# Altium integrated library TI_Logic_Specialty_Logic.IntLib: 2504 symbols (part 9 of 81)
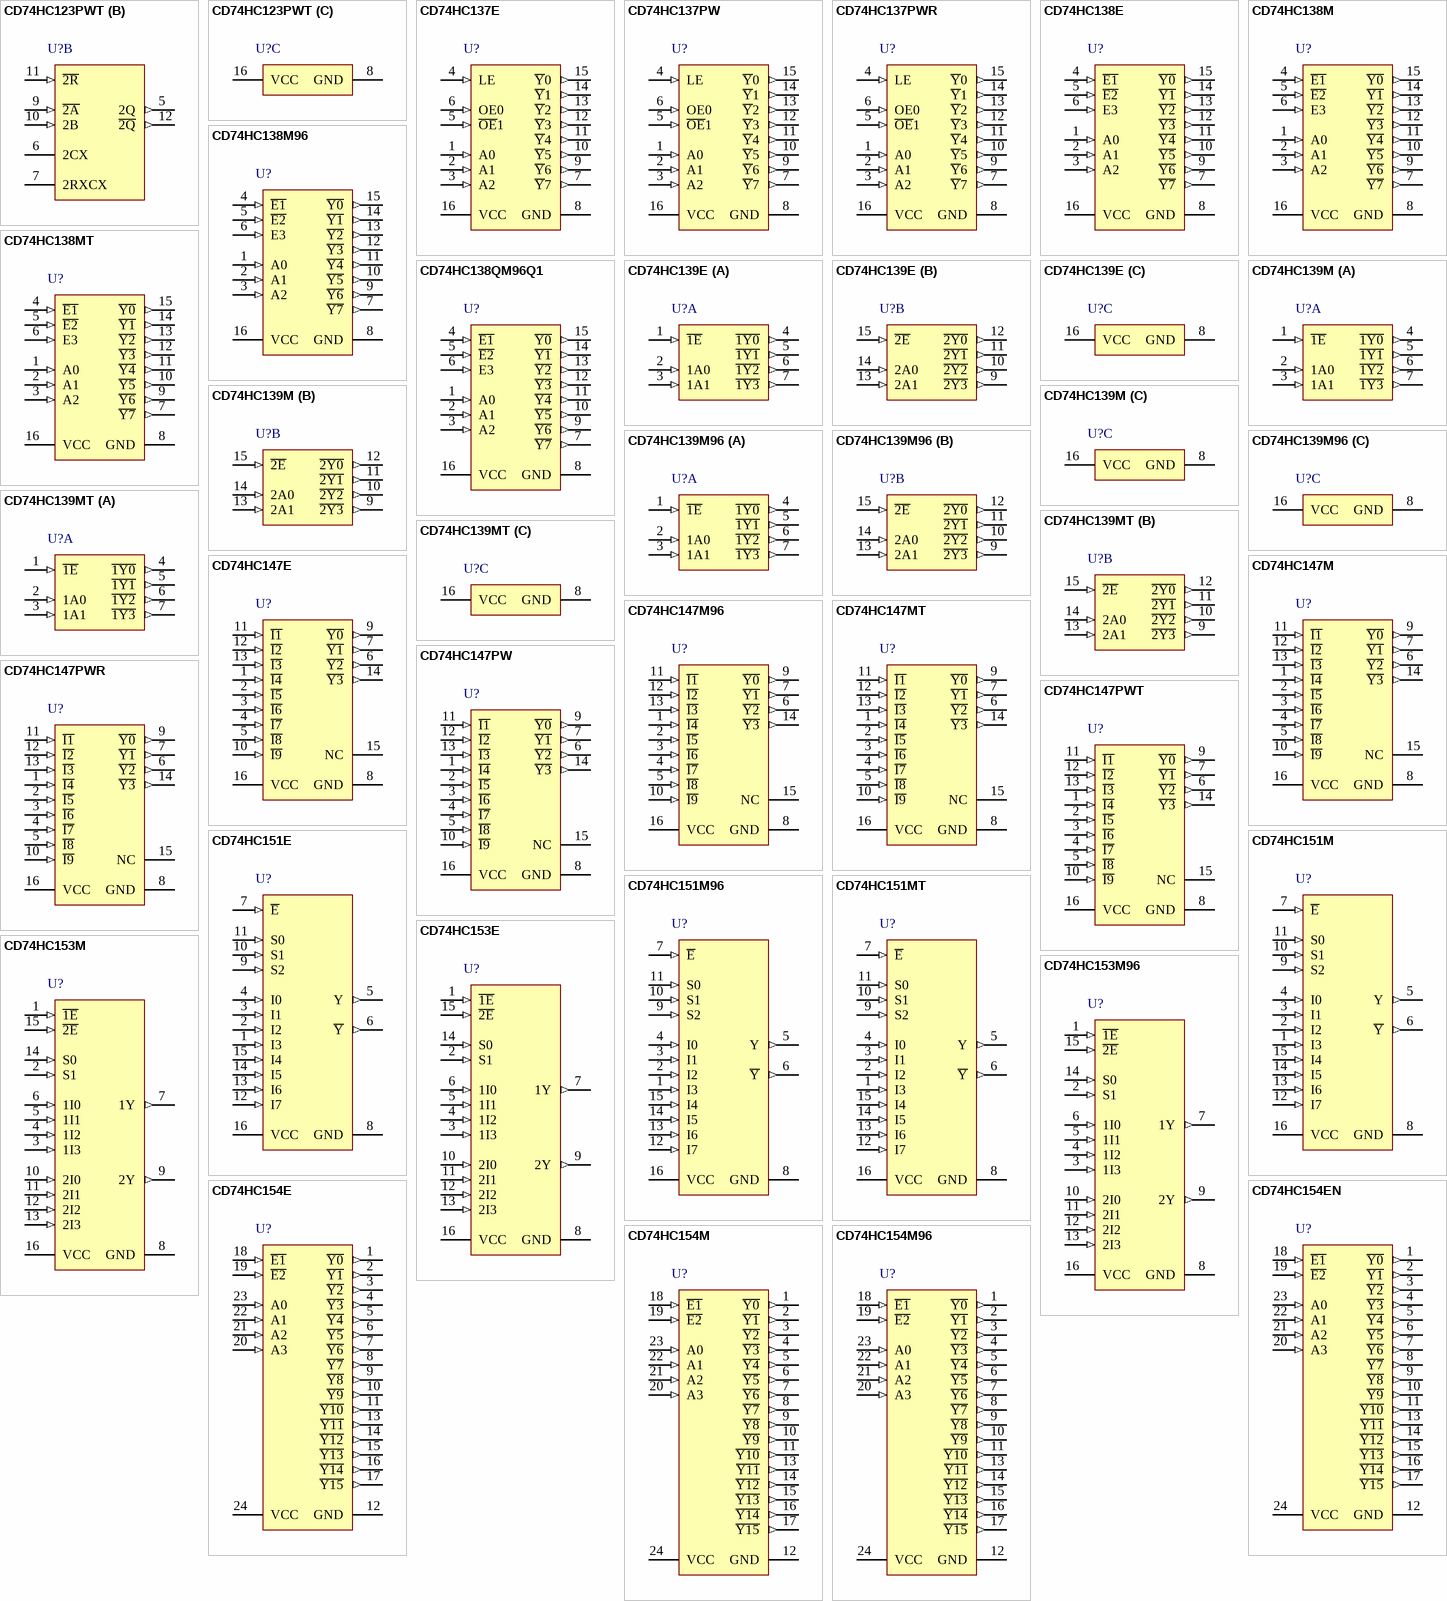
[diagram p112: symbols CD74HC123PWT to CD74HC154M96]

## CD74HC153M96
designator U?
High Speed CMOS Logic Dual 4-Input Multiplexers, D0016A, LARGE T&R; Generic Part Number: CD74HC153; Manufacturer: Texas Instruments; PartNumber: CD74HC153M96; VCC(Min)(V): 2; VCC(Max)(V): 6; Function: Encoder/Multiplexer; ICC @ Nom Voltage(Max)(mA): 0.08; Input Type: LVTTL/CMOS; Bits(#): 4; F @ Nom Voltage(Max)(Mhz): 28; Configuration: 4：1; Rating: Catalog; Technology Family: HC; Voltage(Nom)(V): 3.3,5; Schmitt Trigger: No; Output Drive (IOL/IOH)(Max)(mA): 5.2/-5.2; tpd @ Nom Voltage(Max)(ns): 40; DatasheetVersion: SCHS151C; PackageReference: D0016A; Supplier 1: Mouser; Supplier Part Number 1: 595-CD74HC153M96; Supplier 2: Digi-Key; Supplier Part Number 2: 296-31568-2-ND; Supplier 3: Digi-Key; Supplier Part Number 3: 296-31568-1-ND; Supplier 4: Digi-Key; Supplier Part Number 4: 296-31568-6-ND; Output Type: CMOS; Operating Temperature Range(C): -55 to 125; Type: Standard; Channels(#): 2; Code_JEDEC: MS-012 variation AC; ComponentLink1Description: Manufacturer URL; ComponentLink1URL: http://www.ti.com/; ComponentLink2Description: Datasheet; ComponentLink2URL: http://www.ti.com/lit/ds/symlink/cd74hc153.pdf; ComponentLink3Description: Package Specification; ComponentLink3URL: http://www.ti.com/lit/ml/mpds178g/mpds178g.pdf
footprint D0016A_N (SOIC, 16-Leads, Body 10x4mm, Pitch 1.27mm, IPC Medium Density)
footprint D0016A_M (SOIC, 16-Leads, Body 10x4mm, Pitch 1.27mm, IPC Low Density)
footprint D0016A_L (SOIC, 16-Leads, Body 10x4mm, Pitch 1.27mm, IPC High Density)
pins: 1 ~{1E} (in), 2 S1 (in), 3 1I3 (in), 4 1I2 (in), 5 1I1 (in), 6 1I0 (in), 7 1Y (out), 8 GND (power), 9 2Y (out), 10 2I0 (in), 11 2I1 (in), 12 2I2 (in), 13 2I3 (in), 14 S0 (in), 15 ~{2E} (in), 16 VCC (power)

## CD74HC154E
designator U?
High Speed CMOS Logic 4-to-16 Line Decoder/Demultiplexer, N0024A, TUBE; Generic Part Number: CD74HC154; Manufacturer: Texas Instruments; PartNumber: CD74HC154E; VCC(Min)(V): 2; VCC(Max)(V): 6; ICC @ Nom Voltage(Max)(mA): 0.08; Input Type: LVTTL/CMOS; Bits(#): 16; F @ Nom Voltage(Max)(Mhz): 28; Configuration: 4：16; Channels(#): 1; Rating: Catalog; Technology Family: HC; Voltage(Nom)(V): 3.3,5; Schmitt Trigger: No; Output Drive (IOL/IOH)(Max)(mA): 5.2/-5.2; tpd @ Nom Voltage(Max)(ns): 44; DatasheetVersion: SCHS152D; PackageReference: N0024A; Supplier 1: Mouser; Supplier Part Number 1: 595-CD74HC154E; Supplier 2: Digi-Key; Supplier Part Number 2: 296-9180-5-ND; Output Type: CMOS; Function: Decoder/Demultiplexer; Operating Temperature Range(C): -55 to 125; Type: Standard; Code_JEDEC: MS-011; ComponentLink1Description: Manufacturer URL; ComponentLink1URL: http://www.ti.com/; ComponentLink2Description: Datasheet; ComponentLink2URL: http://www.ti.com/lit/ds/symlink/cd74hc154.pdf; ComponentLink3Description: Package Specification; ComponentLink3URL: http://www.ti.com/lit/ml/mpdi008/mpdi008.pdf
footprint N0024A (DIP, 24-Leads, Body 32.25x14.2mm, Pitch 2.54mm)
pins: 1 ~{Y0} (out), 2 ~{Y1} (out), 3 ~{Y2} (out), 4 ~{Y3} (out), 5 ~{Y4} (out), 6 ~{Y5} (out), 7 ~{Y6} (out), 8 ~{Y7} (out), 9 ~{Y8} (out), 10 ~{Y9} (out), 11 ~{Y10} (out), 12 GND (power), 13 ~{Y11} (out), 14 ~{Y12} (out), 15 ~{Y13} (out), 16 ~{Y14} (out), 17 ~{Y15} (out), 18 ~{E1} (in), 19 ~{E2} (in), 20 A3 (in), 21 A2 (in), 22 A1 (in), 23 A0 (in), 24 VCC (power)

## CD74HC154EN
designator U?
High Speed CMOS Logic 4-to-16 Line Decoder/Demultiplexer, NT0024A, TUBE; Generic Part Number: CD74HC154; Manufacturer: Texas Instruments; PartNumber: CD74HC154EN; VCC(Min)(V): 2; VCC(Max)(V): 6; ICC @ Nom Voltage(Max)(mA): 0.08; Input Type: LVTTL/CMOS; Bits(#): 16; F @ Nom Voltage(Max)(Mhz): 28; Configuration: 4：16; Channels(#): 1; Rating: Catalog; Technology Family: HC; Voltage(Nom)(V): 3.3,5; Schmitt Trigger: No; Output Drive (IOL/IOH)(Max)(mA): 5.2/-5.2; tpd @ Nom Voltage(Max)(ns): 44; DatasheetVersion: SCHS152D; PackageReference: NT0024A; Supplier 1: Mouser; Supplier Part Number 1: 595-CD74HC154EN; Supplier 2: Digi-Key; Supplier Part Number 2: 296-9181-5-ND; Output Type: CMOS; Function: Decoder/Demultiplexer; Operating Temperature Range(C): -55 to 125; Type: Standard; ComponentLink1Description: Manufacturer URL; ComponentLink1URL: http://www.ti.com/; ComponentLink2Description: Datasheet; ComponentLink2URL: http://www.ti.com/lit/ds/symlink/cd74hc154.pdf; ComponentLink3Description: Package Specification; ComponentLink3URL: http://www.ti.com/lit/ml/mpdi004a/mpdi004a.pdf
footprint NT0024A (DIP, 24-Leads, Body 32.05x7.1mm, Pitch 2.54mm)
pins: 1 ~{Y0} (out), 2 ~{Y1} (out), 3 ~{Y2} (out), 4 ~{Y3} (out), 5 ~{Y4} (out), 6 ~{Y5} (out), 7 ~{Y6} (out), 8 ~{Y7} (out), 9 ~{Y8} (out), 10 ~{Y9} (out), 11 ~{Y10} (out), 12 GND (power), 13 ~{Y11} (out), 14 ~{Y12} (out), 15 ~{Y13} (out), 16 ~{Y14} (out), 17 ~{Y15} (out), 18 ~{E1} (in), 19 ~{E2} (in), 20 A3 (in), 21 A2 (in), 22 A1 (in), 23 A0 (in), 24 VCC (power)

## CD74HC154M
designator U?
High Speed CMOS Logic 4-to-16 Line Decoder/Demultiplexer, DW0024A, TUBE; Generic Part Number: CD74HC154; Manufacturer: Texas Instruments; PartNumber: CD74HC154M; VCC(Min)(V): 2; VCC(Max)(V): 6; ICC @ Nom Voltage(Max)(mA): 0.08; Input Type: LVTTL/CMOS; Bits(#): 16; F @ Nom Voltage(Max)(Mhz): 28; Configuration: 4：16; Channels(#): 1; Rating: Catalog; Technology Family: HC; Voltage(Nom)(V): 3.3,5; Schmitt Trigger: No; Output Drive (IOL/IOH)(Max)(mA): 5.2/-5.2; tpd @ Nom Voltage(Max)(ns): 44; DatasheetVersion: SCHS152D; PackageReference: DW0024A; Supplier 1: Mouser; Supplier Part Number 1: 595-CD74HC154M; Supplier 2: Digi-Key; Supplier Part Number 2: 296-9182-5-ND; Output Type: CMOS; Function: Decoder/Demultiplexer; Operating Temperature Range(C): -55 to 125; Type: Standard; Code_JEDEC: MS-013; ComponentLink1Description: Manufacturer URL; ComponentLink1URL: http://www.ti.com/; ComponentLink2Description: Datasheet; ComponentLink2URL: http://www.ti.com/lit/ds/symlink/cd74hc154.pdf; ComponentLink3Description: Package Specification; ComponentLink3URL: http://www.ti.com/lit/ml/mpds174a/mpds174a.pdf
footprint DW0024A_N (SOIC, 24-Leads, Body 15.6x7.6mm, Pitch 1.27mm, IPC Medium Density)
footprint DW0024A_M (SOIC, 24-Leads, Body 15.6x7.6mm, Pitch 1.27mm, IPC Low Density)
footprint DW0024A_L (SOIC, 24-Leads, Body 15.6x7.6mm, Pitch 1.27mm, IPC High Density)
pins: 1 ~{Y0} (out), 2 ~{Y1} (out), 3 ~{Y2} (out), 4 ~{Y3} (out), 5 ~{Y4} (out), 6 ~{Y5} (out), 7 ~{Y6} (out), 8 ~{Y7} (out), 9 ~{Y8} (out), 10 ~{Y9} (out), 11 ~{Y10} (out), 12 GND (power), 13 ~{Y11} (out), 14 ~{Y12} (out), 15 ~{Y13} (out), 16 ~{Y14} (out), 17 ~{Y15} (out), 18 ~{E1} (in), 19 ~{E2} (in), 20 A3 (in), 21 A2 (in), 22 A1 (in), 23 A0 (in), 24 VCC (power)

## CD74HC154M96
designator U?
High Speed CMOS Logic 4-to-16 Line Decoder/Demultiplexer, DW0024A, LARGE T&R; Generic Part Number: CD74HC154; Manufacturer: Texas Instruments; PartNumber: CD74HC154M96; VCC(Min)(V): 2; VCC(Max)(V): 6; ICC @ Nom Voltage(Max)(mA): 0.08; Input Type: LVTTL/CMOS; Bits(#): 16; F @ Nom Voltage(Max)(Mhz): 28; Configuration: 4：16; Channels(#): 1; Rating: Catalog; Technology Family: HC; Voltage(Nom)(V): 3.3,5; Schmitt Trigger: No; Output Drive (IOL/IOH)(Max)(mA): 5.2/-5.2; tpd @ Nom Voltage(Max)(ns): 44; DatasheetVersion: SCHS152D; PackageReference: DW0024A; Supplier 1: Mouser; Supplier Part Number 1: 595-CD74HC154M96; Supplier 2: Digi-Key; Supplier Part Number 2: 296-24352-2-ND; Supplier 3: Digi-Key; Supplier Part Number 3: 296-24352-1-ND; Supplier 4: Digi-Key; Supplier Part Number 4: 296-24352-6-ND; Output Type: CMOS; Function: Decoder/Demultiplexer; Operating Temperature Range(C): -55 to 125; Type: Standard; Code_JEDEC: MS-013; ComponentLink1Description: Manufacturer URL; ComponentLink1URL: http://www.ti.com/; ComponentLink2Description: Datasheet; ComponentLink2URL: http://www.ti.com/lit/ds/symlink/cd74hc154.pdf; ComponentLink3Description: Package Specification; ComponentLink3URL: http://www.ti.com/lit/ml/mpds174a/mpds174a.pdf
footprint DW0024A_N (SOIC, 24-Leads, Body 15.6x7.6mm, Pitch 1.27mm, IPC Medium Density)
footprint DW0024A_M (SOIC, 24-Leads, Body 15.6x7.6mm, Pitch 1.27mm, IPC Low Density)
footprint DW0024A_L (SOIC, 24-Leads, Body 15.6x7.6mm, Pitch 1.27mm, IPC High Density)
pins: 1 ~{Y0} (out), 2 ~{Y1} (out), 3 ~{Y2} (out), 4 ~{Y3} (out), 5 ~{Y4} (out), 6 ~{Y5} (out), 7 ~{Y6} (out), 8 ~{Y7} (out), 9 ~{Y8} (out), 10 ~{Y9} (out), 11 ~{Y10} (out), 12 GND (power), 13 ~{Y11} (out), 14 ~{Y12} (out), 15 ~{Y13} (out), 16 ~{Y14} (out), 17 ~{Y15} (out), 18 ~{E1} (in), 19 ~{E2} (in), 20 A3 (in), 21 A2 (in), 22 A1 (in), 23 A0 (in), 24 VCC (power)

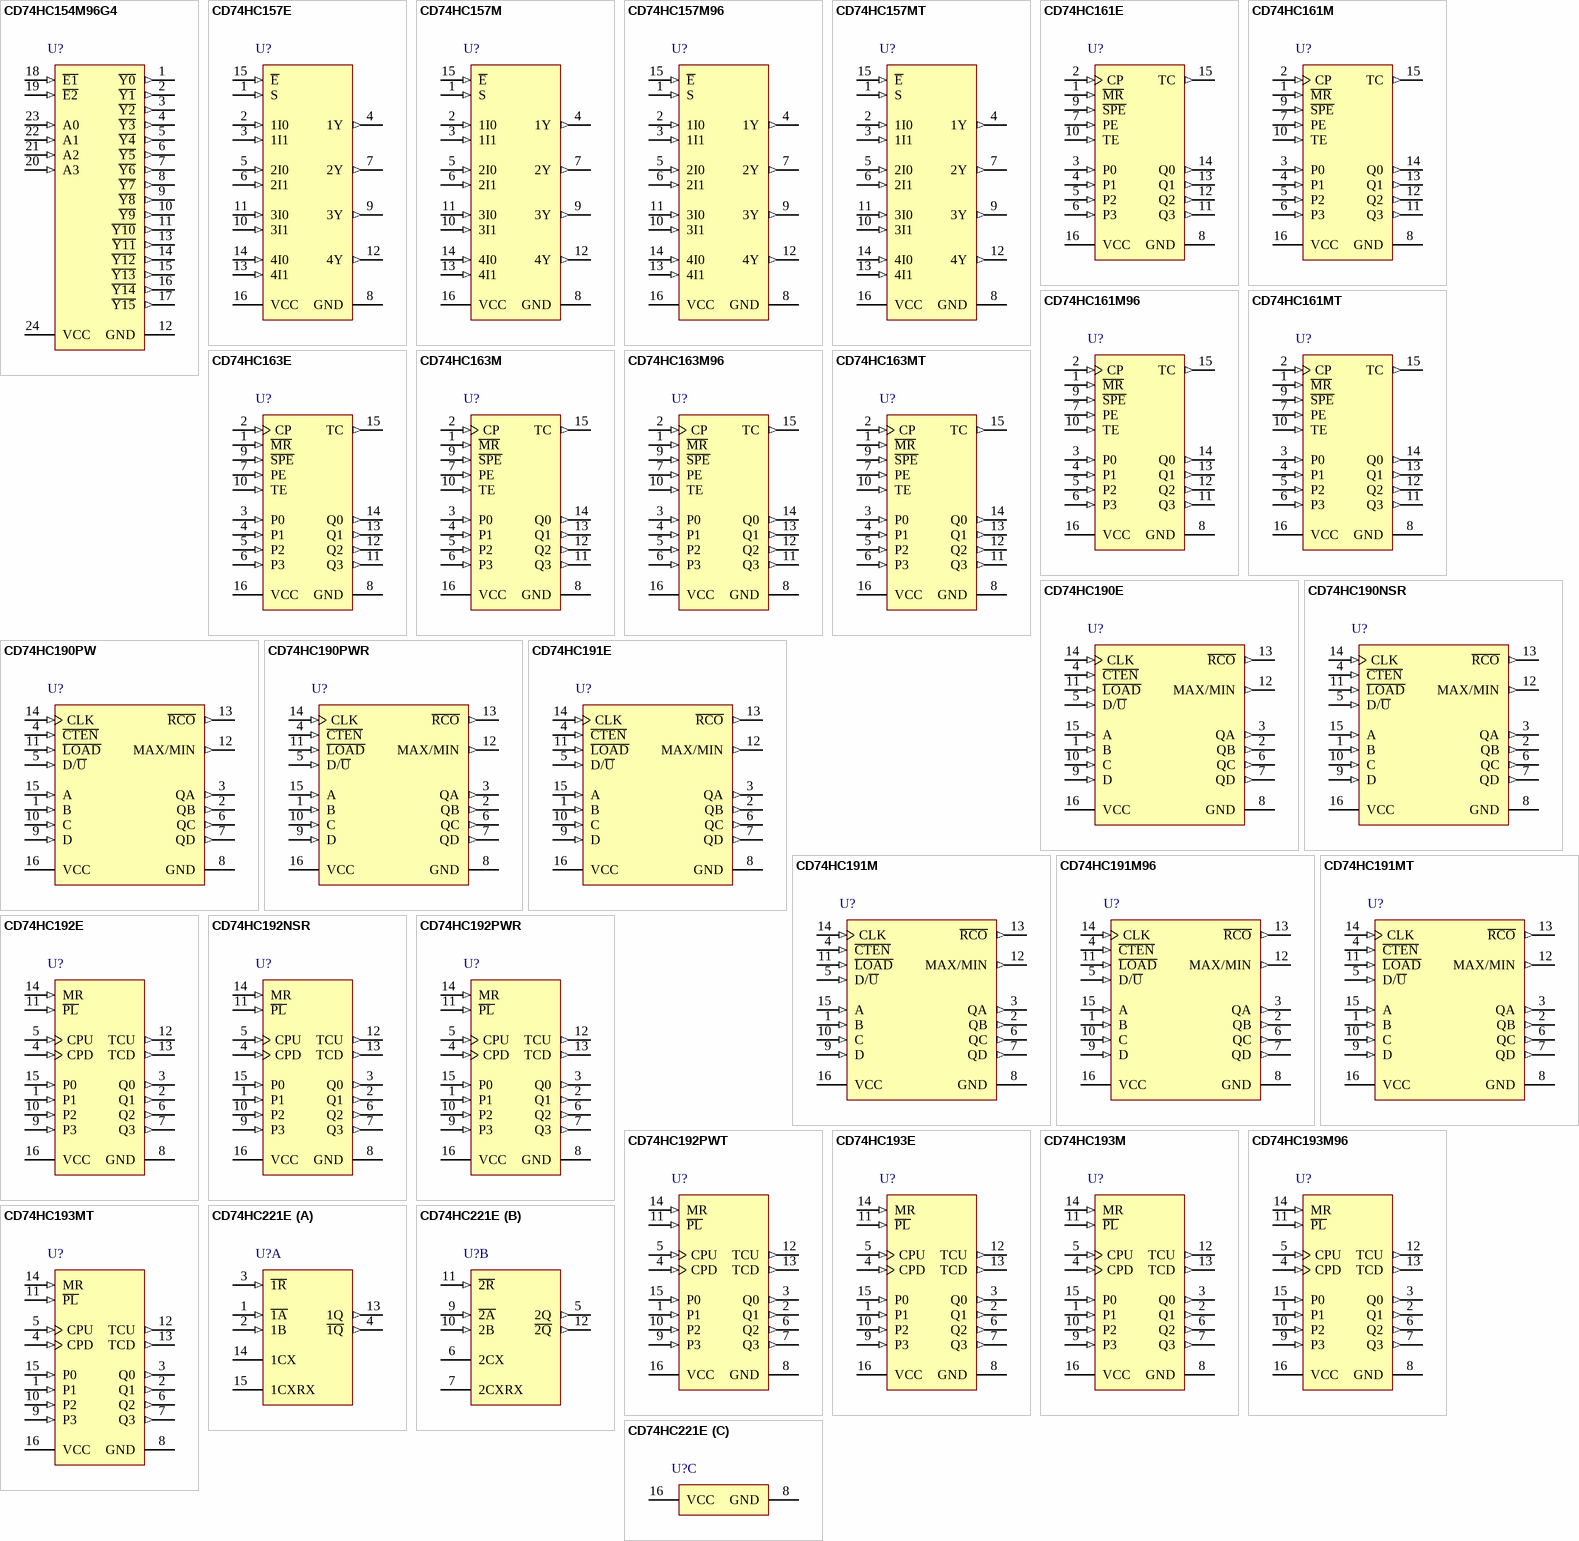
[diagram p11: symbols CD74HC154M96G4 to CD74HC221E]

## CD74HC154M96G4
designator U?
High Speed CMOS Logic 4-to-16 Line Decoder/Demultiplexer, DW0024A, LARGE T&R; Generic Part Number: CD74HC154; Manufacturer: Texas Instruments; PartNumber: CD74HC154M96G4; VCC(Min)(V): 2; VCC(Max)(V): 6; ICC @ Nom Voltage(Max)(mA): 0.08; Input Type: LVTTL/CMOS; Bits(#): 16; F @ Nom Voltage(Max)(Mhz): 28; Configuration: 4：16; Channels(#): 1; Rating: Catalog; Technology Family: HC; Voltage(Nom)(V): 3.3,5; Schmitt Trigger: No; Output Drive (IOL/IOH)(Max)(mA): 5.2/-5.2; tpd @ Nom Voltage(Max)(ns): 44; DatasheetVersion: SCHS152D; PackageReference: DW0024A; Supplier 1: Mouser; Supplier Part Number 1: 595-CD74HC154M96G4; Supplier 2: Digi-Key; Supplier Part Number 2: CD74HC154M96G4-ND; Output Type: CMOS; Function: Decoder/Demultiplexer; Operating Temperature Range(C): -55 to 125; Type: Standard; Code_JEDEC: MS-013; ComponentLink1Description: Manufacturer URL; ComponentLink1URL: http://www.ti.com/; ComponentLink2Description: Datasheet; ComponentLink2URL: http://www.ti.com/lit/ds/symlink/cd74hc154.pdf; ComponentLink3Description: Package Specification; ComponentLink3URL: http://www.ti.com/lit/ml/mpds174a/mpds174a.pdf
footprint DW0024A_N (SOIC, 24-Leads, Body 15.6x7.6mm, Pitch 1.27mm, IPC Medium Density)
footprint DW0024A_M (SOIC, 24-Leads, Body 15.6x7.6mm, Pitch 1.27mm, IPC Low Density)
footprint DW0024A_L (SOIC, 24-Leads, Body 15.6x7.6mm, Pitch 1.27mm, IPC High Density)
pins: 1 ~{Y0} (out), 2 ~{Y1} (out), 3 ~{Y2} (out), 4 ~{Y3} (out), 5 ~{Y4} (out), 6 ~{Y5} (out), 7 ~{Y6} (out), 8 ~{Y7} (out), 9 ~{Y8} (out), 10 ~{Y9} (out), 11 ~{Y10} (out), 12 GND (power), 13 ~{Y11} (out), 14 ~{Y12} (out), 15 ~{Y13} (out), 16 ~{Y14} (out), 17 ~{Y15} (out), 18 ~{E1} (in), 19 ~{E2} (in), 20 A3 (in), 21 A2 (in), 22 A1 (in), 23 A0 (in), 24 VCC (power)

## CD74HC157E
designator U?
High Speed CMOS Logic Quad 2-Input Multiplexers, N0016A, TUBE; Generic Part Number: CD74HC157; Manufacturer: Texas Instruments; PartNumber: CD74HC157E; VCC(Min)(V): 2; VCC(Max)(V): 6; Function: Encoder/Multiplexer; ICC @ Nom Voltage(Max)(mA): 0.08; Input Type: LVTTL/CMOS; F @ Nom Voltage(Max)(Mhz): 28; Configuration: 2：1; Channels(#): 4; Rating: Catalog; Technology Family: HC; Voltage(Nom)(V): 3.3,5; Schmitt Trigger: No; Output Drive (IOL/IOH)(Max)(mA): 5.2/-5.2; tpd @ Nom Voltage(Max)(ns): 10; DatasheetVersion: SCHS153C; PackageReference: N0016A; Supplier 1: Mouser; Supplier Part Number 1: 595-CD74HC157E; Supplier 2: Digi-Key; Supplier Part Number 2: 296-33030-5-ND; Output Type: CMOS; Bits(#): 2; Operating Temperature Range(C): -55 to 125; Type: Standard; Code_JEDEC: MS-001; ComponentLink1Description: Manufacturer URL; ComponentLink1URL: http://www.ti.com/; ComponentLink2Description: Datasheet; ComponentLink2URL: http://www.ti.com/lit/ds/symlink/cd74hc157.pdf; ComponentLink3Description: Package Specification; ComponentLink3URL: http://www.ti.com/lit/ml/mpdi002c/mpdi002c.pdf
footprint N0016A (DIP, 16-Leads, Body 19.7x6.6mm, Pitch 2.54mm)
pins: 1 S (in), 2 1I0 (in), 3 1I1 (in), 4 1Y (out), 5 2I0 (in), 6 2I1 (in), 7 2Y (out), 8 GND (power), 9 3Y (out), 10 3I1 (in), 11 3I0 (in), 12 4Y (out), 13 4I1 (in), 14 4I0 (in), 15 ~{E} (in), 16 VCC (power)

## CD74HC157M
designator U?
High Speed CMOS Logic Quad 2-Input Multiplexers, D0016A, TUBE; Generic Part Number: CD74HC157; Manufacturer: Texas Instruments; PartNumber: CD74HC157M; VCC(Min)(V): 2; VCC(Max)(V): 6; Function: Encoder/Multiplexer; ICC @ Nom Voltage(Max)(mA): 0.08; Input Type: LVTTL/CMOS; F @ Nom Voltage(Max)(Mhz): 28; Configuration: 2：1; Channels(#): 4; Rating: Catalog; Technology Family: HC; Voltage(Nom)(V): 3.3,5; Schmitt Trigger: No; Output Drive (IOL/IOH)(Max)(mA): 5.2/-5.2; tpd @ Nom Voltage(Max)(ns): 10; DatasheetVersion: SCHS153C; PackageReference: D0016A; Supplier 1: Mouser; Supplier Part Number 1: 595-CD74HC157M; Supplier 2: Digi-Key; Supplier Part Number 2: 296-33031-5-ND; Output Type: CMOS; Bits(#): 2; Operating Temperature Range(C): -55 to 125; Type: Standard; Code_JEDEC: MS-012 variation AC; ComponentLink1Description: Manufacturer URL; ComponentLink1URL: http://www.ti.com/; ComponentLink2Description: Datasheet; ComponentLink2URL: http://www.ti.com/lit/ds/symlink/cd74hc157.pdf; ComponentLink3Description: Package Specification; ComponentLink3URL: http://www.ti.com/lit/ml/mpds178g/mpds178g.pdf
footprint D0016A_N (SOIC, 16-Leads, Body 10x4mm, Pitch 1.27mm, IPC Medium Density)
footprint D0016A_M (SOIC, 16-Leads, Body 10x4mm, Pitch 1.27mm, IPC Low Density)
footprint D0016A_L (SOIC, 16-Leads, Body 10x4mm, Pitch 1.27mm, IPC High Density)
pins: 1 S (in), 2 1I0 (in), 3 1I1 (in), 4 1Y (out), 5 2I0 (in), 6 2I1 (in), 7 2Y (out), 8 GND (power), 9 3Y (out), 10 3I1 (in), 11 3I0 (in), 12 4Y (out), 13 4I1 (in), 14 4I0 (in), 15 ~{E} (in), 16 VCC (power)

## CD74HC157M96
designator U?
High Speed CMOS Logic Quad 2-Input Multiplexers, D0016A, LARGE T&R; Generic Part Number: CD74HC157; Manufacturer: Texas Instruments; PartNumber: CD74HC157M96; VCC(Min)(V): 2; VCC(Max)(V): 6; Function: Encoder/Multiplexer; ICC @ Nom Voltage(Max)(mA): 0.08; Input Type: LVTTL/CMOS; F @ Nom Voltage(Max)(Mhz): 28; Configuration: 2：1; Channels(#): 4; Rating: Catalog; Technology Family: HC; Voltage(Nom)(V): 3.3,5; Schmitt Trigger: No; Output Drive (IOL/IOH)(Max)(mA): 5.2/-5.2; tpd @ Nom Voltage(Max)(ns): 10; DatasheetVersion: SCHS153C; PackageReference: D0016A; Supplier 1: Mouser; Supplier Part Number 1: 595-CD74HC157M96; Supplier 2: Digi-Key; Supplier Part Number 2: 296-31569-2-ND; Supplier 3: Digi-Key; Supplier Part Number 3: 296-31569-1-ND; Supplier 4: Digi-Key; Supplier Part Number 4: 296-31569-6-ND; Output Type: CMOS; Bits(#): 2; Operating Temperature Range(C): -55 to 125; Type: Standard; Code_JEDEC: MS-012 variation AC; ComponentLink1Description: Manufacturer URL; ComponentLink1URL: http://www.ti.com/; ComponentLink2Description: Datasheet; ComponentLink2URL: http://www.ti.com/lit/ds/symlink/cd74hc157.pdf; ComponentLink3Description: Package Specification; ComponentLink3URL: http://www.ti.com/lit/ml/mpds178g/mpds178g.pdf
footprint D0016A_N (SOIC, 16-Leads, Body 10x4mm, Pitch 1.27mm, IPC Medium Density)
footprint D0016A_M (SOIC, 16-Leads, Body 10x4mm, Pitch 1.27mm, IPC Low Density)
footprint D0016A_L (SOIC, 16-Leads, Body 10x4mm, Pitch 1.27mm, IPC High Density)
pins: 1 S (in), 2 1I0 (in), 3 1I1 (in), 4 1Y (out), 5 2I0 (in), 6 2I1 (in), 7 2Y (out), 8 GND (power), 9 3Y (out), 10 3I1 (in), 11 3I0 (in), 12 4Y (out), 13 4I1 (in), 14 4I0 (in), 15 ~{E} (in), 16 VCC (power)

## CD74HC157MT
designator U?
High Speed CMOS Logic Quad 2-Input Multiplexers, D0016A, SMALL T&R; Generic Part Number: CD74HC157; Manufacturer: Texas Instruments; PartNumber: CD74HC157MT; VCC(Min)(V): 2; VCC(Max)(V): 6; Function: Encoder/Multiplexer; ICC @ Nom Voltage(Max)(mA): 0.08; Input Type: LVTTL/CMOS; F @ Nom Voltage(Max)(Mhz): 28; Configuration: 2：1; Channels(#): 4; Rating: Catalog; Technology Family: HC; Voltage(Nom)(V): 3.3,5; Schmitt Trigger: No; Output Drive (IOL/IOH)(Max)(mA): 5.2/-5.2; tpd @ Nom Voltage(Max)(ns): 10; DatasheetVersion: SCHS153C; PackageReference: D0016A; Supplier 1: Mouser; Supplier Part Number 1: 595-CD74HC157MT; Supplier 2: Digi-Key; Supplier Part Number 2: CD74HC157MT-ND; Output Type: CMOS; Bits(#): 2; Operating Temperature Range(C): -55 to 125; Type: Standard; Code_JEDEC: MS-012 variation AC; ComponentLink1Description: Manufacturer URL; ComponentLink1URL: http://www.ti.com/; ComponentLink2Description: Datasheet; ComponentLink2URL: http://www.ti.com/lit/ds/symlink/cd74hc157.pdf; ComponentLink3Description: Package Specification; ComponentLink3URL: http://www.ti.com/lit/ml/mpds178g/mpds178g.pdf
footprint D0016A_N (SOIC, 16-Leads, Body 10x4mm, Pitch 1.27mm, IPC Medium Density)
footprint D0016A_M (SOIC, 16-Leads, Body 10x4mm, Pitch 1.27mm, IPC Low Density)
footprint D0016A_L (SOIC, 16-Leads, Body 10x4mm, Pitch 1.27mm, IPC High Density)
pins: 1 S (in), 2 1I0 (in), 3 1I1 (in), 4 1Y (out), 5 2I0 (in), 6 2I1 (in), 7 2Y (out), 8 GND (power), 9 3Y (out), 10 3I1 (in), 11 3I0 (in), 12 4Y (out), 13 4I1 (in), 14 4I0 (in), 15 ~{E} (in), 16 VCC (power)

## CD74HC161E
designator U?
High Speed CMOS Logic 4-Bit Binary Counter with Asynchronous Reset, N0016A, TUBE; Generic Part Number: CD74HC161; Manufacturer: Texas Instruments; PartNumber: CD74HC161E; VCC(Min)(V): 2; VCC(Max)(V): 6; Inputs: 4; ICC @ Nom Voltage(Max)(mA): 0.08; Input Type: LVTTL/CMOS; F @ Nom Voltage(Max)(Mhz): 28; Rating: Catalog; Technology Family: HC; Voltage(Nom)(V): 3.3,5; Schmitt Trigger: No; Output Drive (IOL/IOH)(Max)(mA): 5.2/-5.2; tpd @ Nom Voltage(Max)(ns): 39; DatasheetVersion: SCHS154D; PackageReference: N0016A; Supplier 1: Mouser; Supplier Part Number 1: 595-CD74HC161E; Supplier 2: Digi-Key; Supplier Part Number 2: 296-33032-5-ND; Output Type: CMOS; Function: Counter; Bits(#): 4; Operating Temperature Range(C): -55 to 125; Type: Binary; Code_JEDEC: MS-001; ComponentLink1Description: Manufacturer URL; ComponentLink1URL: http://www.ti.com/; ComponentLink2Description: Datasheet; ComponentLink2URL: http://www.ti.com/lit/ds/symlink/cd74hc161.pdf; ComponentLink3Description: Package Specification; ComponentLink3URL: http://www.ti.com/lit/ml/mpdi002c/mpdi002c.pdf
footprint N0016A (DIP, 16-Leads, Body 19.7x6.6mm, Pitch 2.54mm)
pins: 1 ~{MR} (in), 2 CP (in), 3 P0 (in), 4 P1 (in), 5 P2 (in), 6 P3 (in), 7 PE (in), 8 GND (power), 9 ~{SPE} (in), 10 TE (in), 11 Q3 (out), 12 Q2 (out), 13 Q1 (out), 14 Q0 (out), 15 TC (out), 16 VCC (power)

## CD74HC161M
designator U?
High Speed CMOS Logic 4-Bit Binary Counter with Asynchronous Reset, D0016A, TUBE; Generic Part Number: CD74HC161; Manufacturer: Texas Instruments; PartNumber: CD74HC161M; VCC(Min)(V): 2; VCC(Max)(V): 6; Inputs: 4; ICC @ Nom Voltage(Max)(mA): 0.08; Input Type: LVTTL/CMOS; F @ Nom Voltage(Max)(Mhz): 28; Rating: Catalog; Technology Family: HC; Voltage(Nom)(V): 3.3,5; Schmitt Trigger: No; Output Drive (IOL/IOH)(Max)(mA): 5.2/-5.2; tpd @ Nom Voltage(Max)(ns): 39; DatasheetVersion: SCHS154D; PackageReference: D0016A; Supplier 1: Mouser; Supplier Part Number 1: 595-CD74HC161M; Supplier 2: Digi-Key; Supplier Part Number 2: 296-25974-5-ND; Output Type: CMOS; Function: Counter; Bits(#): 4; Operating Temperature Range(C): -55 to 125; Type: Binary; Code_JEDEC: MS-012 variation AC; ComponentLink1Description: Manufacturer URL; ComponentLink1URL: http://www.ti.com/; ComponentLink2Description: Datasheet; ComponentLink2URL: http://www.ti.com/lit/ds/symlink/cd74hc161.pdf; ComponentLink3Description: Package Specification; ComponentLink3URL: http://www.ti.com/lit/ml/mpds178g/mpds178g.pdf
footprint D0016A_N (SOIC, 16-Leads, Body 10x4mm, Pitch 1.27mm, IPC Medium Density)
footprint D0016A_M (SOIC, 16-Leads, Body 10x4mm, Pitch 1.27mm, IPC Low Density)
footprint D0016A_L (SOIC, 16-Leads, Body 10x4mm, Pitch 1.27mm, IPC High Density)
pins: 1 ~{MR} (in), 2 CP (in), 3 P0 (in), 4 P1 (in), 5 P2 (in), 6 P3 (in), 7 PE (in), 8 GND (power), 9 ~{SPE} (in), 10 TE (in), 11 Q3 (out), 12 Q2 (out), 13 Q1 (out), 14 Q0 (out), 15 TC (out), 16 VCC (power)

## CD74HC161M96
designator U?
High Speed CMOS Logic 4-Bit Binary Counter with Asynchronous Reset, D0016A, LARGE T&R; Generic Part Number: CD74HC161; Manufacturer: Texas Instruments; PartNumber: CD74HC161M96; VCC(Min)(V): 2; VCC(Max)(V): 6; Inputs: 4; ICC @ Nom Voltage(Max)(mA): 0.08; Input Type: LVTTL/CMOS; F @ Nom Voltage(Max)(Mhz): 28; Rating: Catalog; Technology Family: HC; Voltage(Nom)(V): 3.3,5; Schmitt Trigger: No; Output Drive (IOL/IOH)(Max)(mA): 5.2/-5.2; tpd @ Nom Voltage(Max)(ns): 39; DatasheetVersion: SCHS154D; PackageReference: D0016A; Supplier 1: Mouser; Supplier Part Number 1: 595-CD74HC161M96; Supplier 2: Digi-Key; Supplier Part Number 2: 296-23206-2-ND; Supplier 3: Digi-Key; Supplier Part Number 3: 296-23206-1-ND; Supplier 4: Digi-Key; Supplier Part Number 4: 296-23206-6-ND; Output Type: CMOS; Function: Counter; Bits(#): 4; Operating Temperature Range(C): -55 to 125; Type: Binary; Code_JEDEC: MS-012 variation AC; ComponentLink1Description: Manufacturer URL; ComponentLink1URL: http://www.ti.com/; ComponentLink2Description: Datasheet; ComponentLink2URL: http://www.ti.com/lit/ds/symlink/cd74hc161.pdf; ComponentLink3Description: Package Specification; ComponentLink3URL: http://www.ti.com/lit/ml/mpds178g/mpds178g.pdf
footprint D0016A_N (SOIC, 16-Leads, Body 10x4mm, Pitch 1.27mm, IPC Medium Density)
footprint D0016A_M (SOIC, 16-Leads, Body 10x4mm, Pitch 1.27mm, IPC Low Density)
footprint D0016A_L (SOIC, 16-Leads, Body 10x4mm, Pitch 1.27mm, IPC High Density)
pins: 1 ~{MR} (in), 2 CP (in), 3 P0 (in), 4 P1 (in), 5 P2 (in), 6 P3 (in), 7 PE (in), 8 GND (power), 9 ~{SPE} (in), 10 TE (in), 11 Q3 (out), 12 Q2 (out), 13 Q1 (out), 14 Q0 (out), 15 TC (out), 16 VCC (power)

## CD74HC161MT
designator U?
High Speed CMOS Logic 4-Bit Binary Counter with Asynchronous Reset, D0016A, SMALL T&R; Generic Part Number: CD74HC161; Manufacturer: Texas Instruments; PartNumber: CD74HC161MT; VCC(Min)(V): 2; VCC(Max)(V): 6; Inputs: 4; ICC @ Nom Voltage(Max)(mA): 0.08; Input Type: LVTTL/CMOS; F @ Nom Voltage(Max)(Mhz): 28; Rating: Catalog; Technology Family: HC; Voltage(Nom)(V): 3.3,5; Schmitt Trigger: No; Output Drive (IOL/IOH)(Max)(mA): 5.2/-5.2; tpd @ Nom Voltage(Max)(ns): 39; DatasheetVersion: SCHS154D; PackageReference: D0016A; Supplier 1: Mouser; Supplier Part Number 1: 595-CD74HC161MT; Supplier 2: Digi-Key; Supplier Part Number 2: 296-32055-2-ND; Supplier 3: Digi-Key; Supplier Part Number 3: 296-32055-1-ND; Supplier 4: Digi-Key; Supplier Part Number 4: 296-32055-6-ND; Output Type: CMOS; Function: Counter; Bits(#): 4; Operating Temperature Range(C): -55 to 125; Type: Binary; Code_JEDEC: MS-012 variation AC; ComponentLink1Description: Manufacturer URL; ComponentLink1URL: http://www.ti.com/; ComponentLink2Description: Datasheet; ComponentLink2URL: http://www.ti.com/lit/ds/symlink/cd74hc161.pdf; ComponentLink3Description: Package Specification; ComponentLink3URL: http://www.ti.com/lit/ml/mpds178g/mpds178g.pdf
footprint D0016A_N (SOIC, 16-Leads, Body 10x4mm, Pitch 1.27mm, IPC Medium Density)
footprint D0016A_M (SOIC, 16-Leads, Body 10x4mm, Pitch 1.27mm, IPC Low Density)
footprint D0016A_L (SOIC, 16-Leads, Body 10x4mm, Pitch 1.27mm, IPC High Density)
pins: 1 ~{MR} (in), 2 CP (in), 3 P0 (in), 4 P1 (in), 5 P2 (in), 6 P3 (in), 7 PE (in), 8 GND (power), 9 ~{SPE} (in), 10 TE (in), 11 Q3 (out), 12 Q2 (out), 13 Q1 (out), 14 Q0 (out), 15 TC (out), 16 VCC (power)

## CD74HC163E
designator U?
High Speed CMOS Logic 4-Bit Binary Counter with Synchronous Reset, N0016A, TUBE; Generic Part Number: CD74HC163; Manufacturer: Texas Instruments; PartNumber: CD74HC163E; VCC(Min)(V): 2; VCC(Max)(V): 6; Inputs: 4; ICC @ Nom Voltage(Max)(mA): 0.08; Input Type: LVTTL/CMOS; F @ Nom Voltage(Max)(Mhz): 28; Rating: Catalog; Technology Family: HC; Voltage(Nom)(V): 3.3,5; Schmitt Trigger: No; Output Drive (IOL/IOH)(Max)(mA): 5.2/-5.2; tpd @ Nom Voltage(Max)(ns): 39; DatasheetVersion: SCHS154D; PackageReference: N0016A; Supplier 1: Mouser; Supplier Part Number 1: 595-CD74HC163E; Supplier 2: Digi-Key; Supplier Part Number 2: 296-33033-5-ND; Output Type: CMOS; Function: Counter; Bits(#): 4; Operating Temperature Range(C): -55 to 125; Type: Binary; Code_JEDEC: MS-001; ComponentLink1Description: Manufacturer URL; ComponentLink1URL: http://www.ti.com/; ComponentLink2Description: Datasheet; ComponentLink2URL: http://www.ti.com/lit/ds/symlink/cd74hc163.pdf; ComponentLink3Description: Package Specification; ComponentLink3URL: http://www.ti.com/lit/ml/mpdi002c/mpdi002c.pdf
footprint N0016A (DIP, 16-Leads, Body 19.7x6.6mm, Pitch 2.54mm)
pins: 1 ~{MR} (in), 2 CP (in), 3 P0 (in), 4 P1 (in), 5 P2 (in), 6 P3 (in), 7 PE (in), 8 GND (power), 9 ~{SPE} (in), 10 TE (in), 11 Q3 (out), 12 Q2 (out), 13 Q1 (out), 14 Q0 (out), 15 TC (out), 16 VCC (power)

## CD74HC163M
designator U?
High Speed CMOS Logic 4-Bit Binary Counter with Synchronous Reset, D0016A, TUBE; Generic Part Number: CD74HC163; Manufacturer: Texas Instruments; PartNumber: CD74HC163M; VCC(Min)(V): 2; VCC(Max)(V): 6; Inputs: 4; ICC @ Nom Voltage(Max)(mA): 0.08; Input Type: LVTTL/CMOS; F @ Nom Voltage(Max)(Mhz): 28; Rating: Catalog; Technology Family: HC; Voltage(Nom)(V): 3.3,5; Schmitt Trigger: No; Output Drive (IOL/IOH)(Max)(mA): 5.2/-5.2; tpd @ Nom Voltage(Max)(ns): 39; DatasheetVersion: SCHS154D; PackageReference: D0016A; Supplier 1: Mouser; Supplier Part Number 1: 595-CD74HC163M; Supplier 2: Digi-Key; Supplier Part Number 2: 296-33034-5-ND; Output Type: CMOS; Function: Counter; Bits(#): 4; Operating Temperature Range(C): -55 to 125; Type: Binary; Code_JEDEC: MS-012 variation AC; ComponentLink1Description: Manufacturer URL; ComponentLink1URL: http://www.ti.com/; ComponentLink2Description: Datasheet; ComponentLink2URL: http://www.ti.com/lit/ds/symlink/cd74hc163.pdf; ComponentLink3Description: Package Specification; ComponentLink3URL: http://www.ti.com/lit/ml/mpds178g/mpds178g.pdf
footprint D0016A_N (SOIC, 16-Leads, Body 10x4mm, Pitch 1.27mm, IPC Medium Density)
footprint D0016A_M (SOIC, 16-Leads, Body 10x4mm, Pitch 1.27mm, IPC Low Density)
footprint D0016A_L (SOIC, 16-Leads, Body 10x4mm, Pitch 1.27mm, IPC High Density)
pins: 1 ~{MR} (in), 2 CP (in), 3 P0 (in), 4 P1 (in), 5 P2 (in), 6 P3 (in), 7 PE (in), 8 GND (power), 9 ~{SPE} (in), 10 TE (in), 11 Q3 (out), 12 Q2 (out), 13 Q1 (out), 14 Q0 (out), 15 TC (out), 16 VCC (power)

## CD74HC163M96
designator U?
High Speed CMOS Logic 4-Bit Binary Counter with Synchronous Reset, D0016A, LARGE T&R; Generic Part Number: CD74HC163; Manufacturer: Texas Instruments; PartNumber: CD74HC163M96; VCC(Min)(V): 2; VCC(Max)(V): 6; Inputs: 4; ICC @ Nom Voltage(Max)(mA): 0.08; Input Type: LVTTL/CMOS; F @ Nom Voltage(Max)(Mhz): 28; Rating: Catalog; Technology Family: HC; Voltage(Nom)(V): 3.3,5; Schmitt Trigger: No; Output Drive (IOL/IOH)(Max)(mA): 5.2/-5.2; tpd @ Nom Voltage(Max)(ns): 39; DatasheetVersion: SCHS154D; PackageReference: D0016A; Supplier 1: Mouser; Supplier Part Number 1: 595-CD74HC163M96; Supplier 2: Digi-Key; Supplier Part Number 2: CD74HC163M96-ND; Output Type: CMOS; Function: Counter; Bits(#): 4; Operating Temperature Range(C): -55 to 125; Type: Binary; Code_JEDEC: MS-012 variation AC; ComponentLink1Description: Manufacturer URL; ComponentLink1URL: http://www.ti.com/; ComponentLink2Description: Datasheet; ComponentLink2URL: http://www.ti.com/lit/ds/symlink/cd74hc163.pdf; ComponentLink3Description: Package Specification; ComponentLink3URL: http://www.ti.com/lit/ml/mpds178g/mpds178g.pdf
footprint D0016A_N (SOIC, 16-Leads, Body 10x4mm, Pitch 1.27mm, IPC Medium Density)
footprint D0016A_M (SOIC, 16-Leads, Body 10x4mm, Pitch 1.27mm, IPC Low Density)
footprint D0016A_L (SOIC, 16-Leads, Body 10x4mm, Pitch 1.27mm, IPC High Density)
pins: 1 ~{MR} (in), 2 CP (in), 3 P0 (in), 4 P1 (in), 5 P2 (in), 6 P3 (in), 7 PE (in), 8 GND (power), 9 ~{SPE} (in), 10 TE (in), 11 Q3 (out), 12 Q2 (out), 13 Q1 (out), 14 Q0 (out), 15 TC (out), 16 VCC (power)

## CD74HC163MT
designator U?
High Speed CMOS Logic 4-Bit Binary Counter with Synchronous Reset, D0016A, SMALL T&R; Generic Part Number: CD74HC163; Manufacturer: Texas Instruments; PartNumber: CD74HC163MT; VCC(Min)(V): 2; VCC(Max)(V): 6; Inputs: 4; ICC @ Nom Voltage(Max)(mA): 0.08; Input Type: LVTTL/CMOS; F @ Nom Voltage(Max)(Mhz): 28; Rating: Catalog; Technology Family: HC; Voltage(Nom)(V): 3.3,5; Schmitt Trigger: No; Output Drive (IOL/IOH)(Max)(mA): 5.2/-5.2; tpd @ Nom Voltage(Max)(ns): 39; DatasheetVersion: SCHS154D; PackageReference: D0016A; Supplier 1: Mouser; Supplier Part Number 1: 595-CD74HC163MT; Supplier 2: Digi-Key; Supplier Part Number 2: 296-32056-2-ND; Supplier 3: Digi-Key; Supplier Part Number 3: 296-32056-1-ND; Supplier 4: Digi-Key; Supplier Part Number 4: 296-32056-6-ND; Output Type: CMOS; Function: Counter; Bits(#): 4; Operating Temperature Range(C): -55 to 125; Type: Binary; Code_JEDEC: MS-012 variation AC; ComponentLink1Description: Manufacturer URL; ComponentLink1URL: http://www.ti.com/; ComponentLink2Description: Datasheet; ComponentLink2URL: http://www.ti.com/lit/ds/symlink/cd74hc163.pdf; ComponentLink3Description: Package Specification; ComponentLink3URL: http://www.ti.com/lit/ml/mpds178g/mpds178g.pdf
footprint D0016A_N (SOIC, 16-Leads, Body 10x4mm, Pitch 1.27mm, IPC Medium Density)
footprint D0016A_M (SOIC, 16-Leads, Body 10x4mm, Pitch 1.27mm, IPC Low Density)
footprint D0016A_L (SOIC, 16-Leads, Body 10x4mm, Pitch 1.27mm, IPC High Density)
pins: 1 ~{MR} (in), 2 CP (in), 3 P0 (in), 4 P1 (in), 5 P2 (in), 6 P3 (in), 7 PE (in), 8 GND (power), 9 ~{SPE} (in), 10 TE (in), 11 Q3 (out), 12 Q2 (out), 13 Q1 (out), 14 Q0 (out), 15 TC (out), 16 VCC (power)

## CD74HC190E
designator U?
High Speed CMOS Logic Presettable Synchronous BCD Decade Up/Down Counter, N0016A, TUBE; Generic Part Number: CD74HC190; Manufacturer: Texas Instruments; PartNumber: CD74HC190E; VCC(Min)(V): 2; VCC(Max)(V): 6; Inputs: 4; ICC @ Nom Voltage(Max)(mA): 0.08; Input Type: LVTTL/CMOS; F @ Nom Voltage(Max)(Mhz): 28; Rating: Catalog; Technology Family: HC; Voltage(Nom)(V): 3.3,5; Schmitt Trigger: No; Output Drive (IOL/IOH)(Max)(mA): 5.2/-5.2; tpd @ Nom Voltage(Max)(ns): 37; DatasheetVersion: SCHS275E; PackageReference: N0016A; Supplier 1: Mouser; Supplier Part Number 1: 595-CD74HC190E; Supplier 2: Digi-Key; Supplier Part Number 2: 296-25978-5-ND; Output Type: CMOS; Function: Counter; Bits(#): 4; Operating Temperature Range(C): -55 to 125; Type: Decade; Code_JEDEC: MS-001; ComponentLink1Description: Manufacturer URL; ComponentLink1URL: http://www.ti.com/; ComponentLink2Description: Datasheet; ComponentLink2URL: http://www.ti.com/lit/ds/symlink/cd74hc190.pdf; ComponentLink3Description: Package Specification; ComponentLink3URL: http://www.ti.com/lit/ml/mpdi002c/mpdi002c.pdf
footprint N0016A (DIP, 16-Leads, Body 19.7x6.6mm, Pitch 2.54mm)
pins: 1 B (in), 2 QB (out), 3 QA (out), 4 ~{CTEN} (in), 5 D/~{U} (in), 6 QC (out), 7 QD (out), 8 GND (power), 9 D (in), 10 C (in), 11 ~{LOAD} (in), 12 MAX/MIN (out), 13 ~{RCO} (out), 14 CLK (in), 15 A (in), 16 VCC (power)

## CD74HC190NSR
designator U?
High Speed CMOS Logic Presettable Synchronous BCD Decade Up/Down Counter, NS0016A, LARGE T&R; Generic Part Number: CD74HC190; Manufacturer: Texas Instruments; PartNumber: CD74HC190NSR; VCC(Min)(V): 2; VCC(Max)(V): 6; Inputs: 4; ICC @ Nom Voltage(Max)(mA): 0.08; Input Type: LVTTL/CMOS; F @ Nom Voltage(Max)(Mhz): 28; Rating: Catalog; Technology Family: HC; Voltage(Nom)(V): 3.3,5; Schmitt Trigger: No; Output Drive (IOL/IOH)(Max)(mA): 5.2/-5.2; tpd @ Nom Voltage(Max)(ns): 37; DatasheetVersion: SCHS275E; PackageReference: NS0016A; Supplier 1: Mouser; Supplier Part Number 1: 595-CD74HC190NSR; Supplier 2: Digi-Key; Supplier Part Number 2: 296-28934-2-ND; Supplier 3: Digi-Key; Supplier Part Number 3: 296-28934-1-ND; Supplier 4: Digi-Key; Supplier Part Number 4: 296-28934-6-ND; Output Type: CMOS; Function: Counter; Bits(#): 4; Operating Temperature Range(C): -55 to 125; Type: Decade; ComponentLink1Description: Manufacturer URL; ComponentLink1URL: http://www.ti.com/; ComponentLink2Description: Datasheet; ComponentLink2URL: http://www.ti.com/lit/ds/symlink/cd74hc190.pdf; ComponentLink3Description: Package Specification; ComponentLink3URL: http://www.ti.com/lit/ml/msop002a/msop002a.pdf
footprint NS0016A_N (SOIC,16-Leads,Body 10.5x5.6mm,Pitch 1.27mm,IPC Medium Density)
footprint NS0016A_M (SOIC,16-Leads,Body 10.5x5.6mm,Pitch 1.27mm,IPC Low Density)
footprint NS0016A_L (SOIC,16-Leads,Body 10.5x5.6mm,Pitch 1.27mm,IPC High Density)
pins: 1 B (in), 2 QB (out), 3 QA (out), 4 ~{CTEN} (in), 5 D/~{U} (in), 6 QC (out), 7 QD (out), 8 GND (power), 9 D (in), 10 C (in), 11 ~{LOAD} (in), 12 MAX/MIN (out), 13 ~{RCO} (out), 14 CLK (in), 15 A (in), 16 VCC (power)

## CD74HC190PW
designator U?
High Speed CMOS Logic Presettable Synchronous BCD Decade Up/Down Counter, PW0016A, TUBE; Generic Part Number: CD74HC190; Manufacturer: Texas Instruments; PartNumber: CD74HC190PW; VCC(Min)(V): 2; VCC(Max)(V): 6; Inputs: 4; ICC @ Nom Voltage(Max)(mA): 0.08; Input Type: LVTTL/CMOS; F @ Nom Voltage(Max)(Mhz): 28; Rating: Catalog; Technology Family: HC; Voltage(Nom)(V): 3.3,5; Schmitt Trigger: No; Output Drive (IOL/IOH)(Max)(mA): 5.2/-5.2; tpd @ Nom Voltage(Max)(ns): 37; DatasheetVersion: SCHS275E; PackageReference: PW0016A; Supplier 1: Mouser; Supplier Part Number 1: 595-CD74HC190PW; Supplier 2: Digi-Key; Supplier Part Number 2: 296-33040-5-ND; Output Type: CMOS; Function: Counter; Bits(#): 4; Operating Temperature Range(C): -55 to 125; Type: Decade; Code_JEDEC: MO-153; ComponentLink1Description: Manufacturer URL; ComponentLink1URL: http://www.ti.com/; ComponentLink2Description: Datasheet; ComponentLink2URL: http://www.ti.com/lit/ds/symlink/cd74hc190.pdf; ComponentLink3Description: Package Specification; ComponentLink3URL: http://www.ti.com/lit/ml/mpds361/mpds361.pdf
footprint PW0016A_N (SOP, 16-Leads, Body 5.1x4.5mm, Pitch 0.65mm, IPC Medium Density)
footprint PW0016A_M (SOP, 16-Leads, Body 5.1x4.5mm, Pitch 0.65mm, IPC Low Density)
footprint PW0016A_L (SOP, 16-Leads, Body 5.1x4.5mm, Pitch 0.65mm, IPC High Density)
pins: 1 B (in), 2 QB (out), 3 QA (out), 4 ~{CTEN} (in), 5 D/~{U} (in), 6 QC (out), 7 QD (out), 8 GND (power), 9 D (in), 10 C (in), 11 ~{LOAD} (in), 12 MAX/MIN (out), 13 ~{RCO} (out), 14 CLK (in), 15 A (in), 16 VCC (power)

## CD74HC190PWR
designator U?
High Speed CMOS Logic Presettable Synchronous BCD Decade Up/Down Counter, PW0016A, LARGE T&R; Generic Part Number: CD74HC190; Manufacturer: Texas Instruments; PartNumber: CD74HC190PWR; VCC(Min)(V): 2; VCC(Max)(V): 6; Inputs: 4; ICC @ Nom Voltage(Max)(mA): 0.08; Input Type: LVTTL/CMOS; F @ Nom Voltage(Max)(Mhz): 28; Rating: Catalog; Technology Family: HC; Voltage(Nom)(V): 3.3,5; Schmitt Trigger: No; Output Drive (IOL/IOH)(Max)(mA): 5.2/-5.2; tpd @ Nom Voltage(Max)(ns): 37; DatasheetVersion: SCHS275E; PackageReference: PW0016A; Supplier 1: Mouser; Supplier Part Number 1: 595-CD74HC190PWR; Supplier 2: Digi-Key; Supplier Part Number 2: 296-29722-2-ND; Supplier 3: Digi-Key; Supplier Part Number 3: 296-29722-1-ND; Supplier 4: Digi-Key; Supplier Part Number 4: 296-29722-6-ND; Output Type: CMOS; Function: Counter; Bits(#): 4; Operating Temperature Range(C): -55 to 125; Type: Decade; Code_JEDEC: MO-153; ComponentLink1Description: Manufacturer URL; ComponentLink1URL: http://www.ti.com/; ComponentLink2Description: Datasheet; ComponentLink2URL: http://www.ti.com/lit/ds/symlink/cd74hc190.pdf; ComponentLink3Description: Package Specification; ComponentLink3URL: http://www.ti.com/lit/ml/mpds361/mpds361.pdf
footprint PW0016A_N (SOP, 16-Leads, Body 5.1x4.5mm, Pitch 0.65mm, IPC Medium Density)
footprint PW0016A_M (SOP, 16-Leads, Body 5.1x4.5mm, Pitch 0.65mm, IPC Low Density)
footprint PW0016A_L (SOP, 16-Leads, Body 5.1x4.5mm, Pitch 0.65mm, IPC High Density)
pins: 1 B (in), 2 QB (out), 3 QA (out), 4 ~{CTEN} (in), 5 D/~{U} (in), 6 QC (out), 7 QD (out), 8 GND (power), 9 D (in), 10 C (in), 11 ~{LOAD} (in), 12 MAX/MIN (out), 13 ~{RCO} (out), 14 CLK (in), 15 A (in), 16 VCC (power)

## CD74HC191E
designator U?
High Speed CMOS Logic Presettable Synchronous 4-Bit Binary Up/Down Counters, N0016A, TUBE; Generic Part Number: CD74HC191; Manufacturer: Texas Instruments; PartNumber: CD74HC191E; VCC(Min)(V): 2; VCC(Max)(V): 6; Inputs: 4; ICC @ Nom Voltage(Max)(mA): 0.08; Input Type: LVTTL/CMOS; F @ Nom Voltage(Max)(Mhz): 28; Rating: Catalog; Technology Family: HC; Voltage(Nom)(V): 3.3,5; Schmitt Trigger: No; Output Drive (IOL/IOH)(Max)(mA): 5.2/-5.2; tpd @ Nom Voltage(Max)(ns): 37; DatasheetVersion: SCHS275E; PackageReference: N0016A; Supplier 1: Mouser; Supplier Part Number 1: 595-CD74HC191E; Supplier 2: Digi-Key; Supplier Part Number 2: CD74HC191E-ND; Output Type: CMOS; Function: Counter; Bits(#): 4; Operating Temperature Range(C): -55 to 125; Type: Binary; Code_JEDEC: MS-001; ComponentLink1Description: Manufacturer URL; ComponentLink1URL: http://www.ti.com/; ComponentLink2Description: Datasheet; ComponentLink2URL: http://www.ti.com/lit/ds/symlink/cd74hc191.pdf; ComponentLink3Description: Package Specification; ComponentLink3URL: http://www.ti.com/lit/ml/mpdi002c/mpdi002c.pdf
footprint N0016A (DIP, 16-Leads, Body 19.7x6.6mm, Pitch 2.54mm)
pins: 1 B (in), 2 QB (out), 3 QA (out), 4 ~{CTEN} (in), 5 D/~{U} (in), 6 QC (out), 7 QD (out), 8 GND (power), 9 D (in), 10 C (in), 11 ~{LOAD} (in), 12 MAX/MIN (out), 13 ~{RCO} (out), 14 CLK (in), 15 A (in), 16 VCC (power)

## CD74HC191M
designator U?
High Speed CMOS Logic Presettable Synchronous 4-Bit Binary Up/Down Counters, D0016A, TUBE; Generic Part Number: CD74HC191; Manufacturer: Texas Instruments; PartNumber: CD74HC191M; VCC(Min)(V): 2; VCC(Max)(V): 6; Inputs: 4; ICC @ Nom Voltage(Max)(mA): 0.08; Input Type: LVTTL/CMOS; F @ Nom Voltage(Max)(Mhz): 28; Rating: Catalog; Technology Family: HC; Voltage(Nom)(V): 3.3,5; Schmitt Trigger: No; Output Drive (IOL/IOH)(Max)(mA): 5.2/-5.2; tpd @ Nom Voltage(Max)(ns): 37; DatasheetVersion: SCHS275E; PackageReference: D0016A; Supplier 1: Mouser; Supplier Part Number 1: 595-CD74HC191M; Supplier 2: Digi-Key; Supplier Part Number 2: 296-33041-5-ND; Output Type: CMOS; Function: Counter; Bits(#): 4; Operating Temperature Range(C): -55 to 125; Type: Binary; Code_JEDEC: MS-012 variation AC; ComponentLink1Description: Manufacturer URL; ComponentLink1URL: http://www.ti.com/; ComponentLink2Description: Datasheet; ComponentLink2URL: http://www.ti.com/lit/ds/symlink/cd74hc191.pdf; ComponentLink3Description: Package Specification; ComponentLink3URL: http://www.ti.com/lit/ml/mpds178g/mpds178g.pdf
footprint D0016A_N (SOIC, 16-Leads, Body 10x4mm, Pitch 1.27mm, IPC Medium Density)
footprint D0016A_M (SOIC, 16-Leads, Body 10x4mm, Pitch 1.27mm, IPC Low Density)
footprint D0016A_L (SOIC, 16-Leads, Body 10x4mm, Pitch 1.27mm, IPC High Density)
pins: 1 B (in), 2 QB (out), 3 QA (out), 4 ~{CTEN} (in), 5 D/~{U} (in), 6 QC (out), 7 QD (out), 8 GND (power), 9 D (in), 10 C (in), 11 ~{LOAD} (in), 12 MAX/MIN (out), 13 ~{RCO} (out), 14 CLK (in), 15 A (in), 16 VCC (power)

## CD74HC191M96
designator U?
High Speed CMOS Logic Presettable Synchronous 4-Bit Binary Up/Down Counters, D0016A, LARGE T&R; Generic Part Number: CD74HC191; Manufacturer: Texas Instruments; PartNumber: CD74HC191M96; VCC(Min)(V): 2; VCC(Max)(V): 6; Inputs: 4; ICC @ Nom Voltage(Max)(mA): 0.08; Input Type: LVTTL/CMOS; F @ Nom Voltage(Max)(Mhz): 28; Rating: Catalog; Technology Family: HC; Voltage(Nom)(V): 3.3,5; Schmitt Trigger: No; Output Drive (IOL/IOH)(Max)(mA): 5.2/-5.2; tpd @ Nom Voltage(Max)(ns): 37; DatasheetVersion: SCHS275E; PackageReference: D0016A; Supplier 1: Mouser; Supplier Part Number 1: 595-CD74HC191M96; Supplier 2: Digi-Key; Supplier Part Number 2: 296-38066-2-ND; Supplier 3: Digi-Key; Supplier Part Number 3: 296-38066-1-ND; Supplier 4: Digi-Key; Supplier Part Number 4: 296-38066-6-ND; Output Type: CMOS; Function: Counter; Bits(#): 4; Operating Temperature Range(C): -55 to 125; Type: Binary; Code_JEDEC: MS-012 variation AC; ComponentLink1Description: Manufacturer URL; ComponentLink1URL: http://www.ti.com/; ComponentLink2Description: Datasheet; ComponentLink2URL: http://www.ti.com/lit/ds/symlink/cd74hc191.pdf; ComponentLink3Description: Package Specification; ComponentLink3URL: http://www.ti.com/lit/ml/mpds178g/mpds178g.pdf
footprint D0016A_N (SOIC, 16-Leads, Body 10x4mm, Pitch 1.27mm, IPC Medium Density)
footprint D0016A_M (SOIC, 16-Leads, Body 10x4mm, Pitch 1.27mm, IPC Low Density)
footprint D0016A_L (SOIC, 16-Leads, Body 10x4mm, Pitch 1.27mm, IPC High Density)
pins: 1 B (in), 2 QB (out), 3 QA (out), 4 ~{CTEN} (in), 5 D/~{U} (in), 6 QC (out), 7 QD (out), 8 GND (power), 9 D (in), 10 C (in), 11 ~{LOAD} (in), 12 MAX/MIN (out), 13 ~{RCO} (out), 14 CLK (in), 15 A (in), 16 VCC (power)

## CD74HC191MT
designator U?
High Speed CMOS Logic Presettable Synchronous 4-Bit Binary Up/Down Counters, D0016A, SMALL T&R; Generic Part Number: CD74HC191; Manufacturer: Texas Instruments; PartNumber: CD74HC191MT; VCC(Min)(V): 2; VCC(Max)(V): 6; Inputs: 4; ICC @ Nom Voltage(Max)(mA): 0.08; Input Type: LVTTL/CMOS; F @ Nom Voltage(Max)(Mhz): 28; Rating: Catalog; Technology Family: HC; Voltage(Nom)(V): 3.3,5; Schmitt Trigger: No; Output Drive (IOL/IOH)(Max)(mA): 5.2/-5.2; tpd @ Nom Voltage(Max)(ns): 37; DatasheetVersion: SCHS275E; PackageReference: D0016A; Supplier 1: Mouser; Supplier Part Number 1: 595-CD74HC191MT; Supplier 2: Digi-Key; Supplier Part Number 2: 296-32060-2-ND; Supplier 3: Digi-Key; Supplier Part Number 3: 296-32060-1-ND; Supplier 4: Digi-Key; Supplier Part Number 4: 296-32060-6-ND; Output Type: CMOS; Function: Counter; Bits(#): 4; Operating Temperature Range(C): -55 to 125; Type: Binary; Code_JEDEC: MS-012 variation AC; ComponentLink1Description: Manufacturer URL; ComponentLink1URL: http://www.ti.com/; ComponentLink2Description: Datasheet; ComponentLink2URL: http://www.ti.com/lit/ds/symlink/cd74hc191.pdf; ComponentLink3Description: Package Specification; ComponentLink3URL: http://www.ti.com/lit/ml/mpds178g/mpds178g.pdf
footprint D0016A_N (SOIC, 16-Leads, Body 10x4mm, Pitch 1.27mm, IPC Medium Density)
footprint D0016A_M (SOIC, 16-Leads, Body 10x4mm, Pitch 1.27mm, IPC Low Density)
footprint D0016A_L (SOIC, 16-Leads, Body 10x4mm, Pitch 1.27mm, IPC High Density)
pins: 1 B (in), 2 QB (out), 3 QA (out), 4 ~{CTEN} (in), 5 D/~{U} (in), 6 QC (out), 7 QD (out), 8 GND (power), 9 D (in), 10 C (in), 11 ~{LOAD} (in), 12 MAX/MIN (out), 13 ~{RCO} (out), 14 CLK (in), 15 A (in), 16 VCC (power)

## CD74HC192E
designator U?
High Speed CMOS Logic Presettable Synchronous BCD Decade Up/Down Counter with Asynchronous Reset, N0016A, TUBE; Generic Part Number: CD74HC192; Manufacturer: Texas Instruments; PartNumber: CD74HC192E; VCC(Min)(V): 2; VCC(Max)(V): 6; Inputs: 1; ICC @ Nom Voltage(Max)(mA): 0.08; Input Type: LVTTL/CMOS; Bits(#): 4; F @ Nom Voltage(Max)(Mhz): 28; Rating: Catalog; Technology Family: HC; Voltage(Nom)(V): 3.3,5; Schmitt Trigger: No; Output Drive (IOL/IOH)(Max)(mA): 5.2/-5.2; tpd @ Nom Voltage(Max)(ns): 46; DatasheetVersion: SCHS163F; PackageReference: N0016A; Supplier 1: Mouser; Supplier Part Number 1: 595-CD74HC192E; Supplier 2: Digi-Key; Supplier Part Number 2: 296-25979-5-ND; Output Type: CMOS; Function: Counter; Operating Temperature Range(C): -55 to 125; Type: Decade; Code_JEDEC: MS-001; ComponentLink1Description: Manufacturer URL; ComponentLink1URL: http://www.ti.com/; ComponentLink2Description: Datasheet; ComponentLink2URL: http://www.ti.com/lit/ds/symlink/cd74hc192.pdf; ComponentLink3Description: Package Specification; ComponentLink3URL: http://www.ti.com/lit/ml/mpdi002c/mpdi002c.pdf
footprint N0016A (DIP, 16-Leads, Body 19.7x6.6mm, Pitch 2.54mm)
pins: 1 P1 (in), 2 Q1 (out), 3 Q0 (out), 4 CPD (in), 5 CPU (in), 6 Q2 (out), 7 Q3 (out), 8 GND (power), 9 P3 (in), 10 P2 (in), 11 ~{PL} (in), 12 TCU (out), 13 TCD (out), 14 MR (in), 15 P0 (in), 16 VCC (power)

## CD74HC192NSR
designator U?
High Speed CMOS Logic Presettable Synchronous BCD Decade Up/Down Counter with Asynchronous Reset, NS0016A, LARGE T&R; Generic Part Number: CD74HC192; Manufacturer: Texas Instruments; PartNumber: CD74HC192NSR; VCC(Min)(V): 2; VCC(Max)(V): 6; Inputs: 1; ICC @ Nom Voltage(Max)(mA): 0.08; Input Type: LVTTL/CMOS; Bits(#): 4; F @ Nom Voltage(Max)(Mhz): 28; Rating: Catalog; Technology Family: HC; Voltage(Nom)(V): 3.3,5; Schmitt Trigger: No; Output Drive (IOL/IOH)(Max)(mA): 5.2/-5.2; tpd @ Nom Voltage(Max)(ns): 46; DatasheetVersion: SCHS163F; PackageReference: NS0016A; Supplier 1: Mouser; Supplier Part Number 1: 595-CD74HC192NSR; Supplier 2: Digi-Key; Supplier Part Number 2: 296-28696-2-ND; Supplier 3: Digi-Key; Supplier Part Number 3: 296-28696-1-ND; Supplier 4: Digi-Key; Supplier Part Number 4: 296-28696-6-ND; Output Type: CMOS; Function: Counter; Operating Temperature Range(C): -55 to 125; Type: Decade; ComponentLink1Description: Manufacturer URL; ComponentLink1URL: http://www.ti.com/; ComponentLink2Description: Datasheet; ComponentLink2URL: http://www.ti.com/lit/ds/symlink/cd74hc192.pdf; ComponentLink3Description: Package Specification; ComponentLink3URL: http://www.ti.com/lit/ml/msop002a/msop002a.pdf
footprint NS0016A_N (SOIC,16-Leads,Body 10.5x5.6mm,Pitch 1.27mm,IPC Medium Density)
footprint NS0016A_M (SOIC,16-Leads,Body 10.5x5.6mm,Pitch 1.27mm,IPC Low Density)
footprint NS0016A_L (SOIC,16-Leads,Body 10.5x5.6mm,Pitch 1.27mm,IPC High Density)
pins: 1 P1 (in), 2 Q1 (out), 3 Q0 (out), 4 CPD (in), 5 CPU (in), 6 Q2 (out), 7 Q3 (out), 8 GND (power), 9 P3 (in), 10 P2 (in), 11 ~{PL} (in), 12 TCU (out), 13 TCD (out), 14 MR (in), 15 P0 (in), 16 VCC (power)

## CD74HC192PWR
designator U?
High Speed CMOS Logic Presettable Synchronous BCD Decade Up/Down Counter with Asynchronous Reset, PW0016A, LARGE T&R; Generic Part Number: CD74HC192; Manufacturer: Texas Instruments; PartNumber: CD74HC192PWR; VCC(Min)(V): 2; VCC(Max)(V): 6; Inputs: 1; ICC @ Nom Voltage(Max)(mA): 0.08; Input Type: LVTTL/CMOS; Bits(#): 4; F @ Nom Voltage(Max)(Mhz): 28; Rating: Catalog; Technology Family: HC; Voltage(Nom)(V): 3.3,5; Schmitt Trigger: No; Output Drive (IOL/IOH)(Max)(mA): 5.2/-5.2; tpd @ Nom Voltage(Max)(ns): 46; DatasheetVersion: SCHS163F; PackageReference: PW0016A; Supplier 1: Mouser; Supplier Part Number 1: 595-CD74HC192PWR; Supplier 2: Digi-Key; Supplier Part Number 2: 296-12793-2-ND; Supplier 3: Digi-Key; Supplier Part Number 3: 296-12793-1-ND; Supplier 4: Digi-Key; Supplier Part Number 4: 296-12793-6-ND; Output Type: CMOS; Function: Counter; Operating Temperature Range(C): -55 to 125; Type: Decade; Code_JEDEC: MO-153; ComponentLink1Description: Manufacturer URL; ComponentLink1URL: http://www.ti.com/; ComponentLink2Description: Datasheet; ComponentLink2URL: http://www.ti.com/lit/ds/symlink/cd74hc192.pdf; ComponentLink3Description: Package Specification; ComponentLink3URL: http://www.ti.com/lit/ml/mpds361/mpds361.pdf
footprint PW0016A_N (SOP, 16-Leads, Body 5.1x4.5mm, Pitch 0.65mm, IPC Medium Density)
footprint PW0016A_M (SOP, 16-Leads, Body 5.1x4.5mm, Pitch 0.65mm, IPC Low Density)
footprint PW0016A_L (SOP, 16-Leads, Body 5.1x4.5mm, Pitch 0.65mm, IPC High Density)
pins: 1 P1 (in), 2 Q1 (out), 3 Q0 (out), 4 CPD (in), 5 CPU (in), 6 Q2 (out), 7 Q3 (out), 8 GND (power), 9 P3 (in), 10 P2 (in), 11 ~{PL} (in), 12 TCU (out), 13 TCD (out), 14 MR (in), 15 P0 (in), 16 VCC (power)

## CD74HC192PWT
designator U?
High Speed CMOS Logic Presettable Synchronous BCD Decade Up/Down Counter with Asynchronous Reset, PW0016A, SMALL T&R; Generic Part Number: CD74HC192; Manufacturer: Texas Instruments; PartNumber: CD74HC192PWT; VCC(Min)(V): 2; VCC(Max)(V): 6; Inputs: 1; ICC @ Nom Voltage(Max)(mA): 0.08; Input Type: LVTTL/CMOS; Bits(#): 4; F @ Nom Voltage(Max)(Mhz): 28; Rating: Catalog; Technology Family: HC; Voltage(Nom)(V): 3.3,5; Schmitt Trigger: No; Output Drive (IOL/IOH)(Max)(mA): 5.2/-5.2; tpd @ Nom Voltage(Max)(ns): 46; DatasheetVersion: SCHS163F; PackageReference: PW0016A; Supplier 1: Mouser; Supplier Part Number 1: 595-CD74HC192PWT; Supplier 2: Digi-Key; Supplier Part Number 2: CD74HC192PWT-ND; Output Type: CMOS; Function: Counter; Operating Temperature Range(C): -55 to 125; Type: Decade; Code_JEDEC: MO-153; ComponentLink1Description: Manufacturer URL; ComponentLink1URL: http://www.ti.com/; ComponentLink2Description: Datasheet; ComponentLink2URL: http://www.ti.com/lit/ds/symlink/cd74hc192.pdf; ComponentLink3Description: Package Specification; ComponentLink3URL: http://www.ti.com/lit/ml/mpds361/mpds361.pdf
footprint PW0016A_N (SOP, 16-Leads, Body 5.1x4.5mm, Pitch 0.65mm, IPC Medium Density)
footprint PW0016A_M (SOP, 16-Leads, Body 5.1x4.5mm, Pitch 0.65mm, IPC Low Density)
footprint PW0016A_L (SOP, 16-Leads, Body 5.1x4.5mm, Pitch 0.65mm, IPC High Density)
pins: 1 P1 (in), 2 Q1 (out), 3 Q0 (out), 4 CPD (in), 5 CPU (in), 6 Q2 (out), 7 Q3 (out), 8 GND (power), 9 P3 (in), 10 P2 (in), 11 ~{PL} (in), 12 TCU (out), 13 TCD (out), 14 MR (in), 15 P0 (in), 16 VCC (power)

## CD74HC193E
designator U?
High Speed CMOS Logic Presettable Synchronous 4-Bit Binary Up/Down Counter with Asynchronous Reset, N0016A, TUBE; Generic Part Number: CD74HC193; Manufacturer: Texas Instruments; PartNumber: CD74HC193E; VCC(Min)(V): 2; VCC(Max)(V): 6; Inputs: 1; ICC @ Nom Voltage(Max)(mA): 0.08; Input Type: LVTTL/CMOS; Bits(#): 4; F @ Nom Voltage(Max)(Mhz): 28; Rating: Catalog; Technology Family: HC; Voltage(Nom)(V): 3.3,5; Schmitt Trigger: No; Output Drive (IOL/IOH)(Max)(mA): 5.2/-5.2; tpd @ Nom Voltage(Max)(ns): 46; DatasheetVersion: SCHS163F; PackageReference: N0016A; Supplier 1: Mouser; Supplier Part Number 1: 595-CD74HC193E; Supplier 2: Digi-Key; Supplier Part Number 2: 296-33042-5-ND; Output Type: CMOS; Function: Counter; Operating Temperature Range(C): -55 to 125; Type: Binary; Code_JEDEC: MS-001; ComponentLink1Description: Manufacturer URL; ComponentLink1URL: http://www.ti.com/; ComponentLink2Description: Datasheet; ComponentLink2URL: http://www.ti.com/lit/ds/symlink/cd74hc193.pdf; ComponentLink3Description: Package Specification; ComponentLink3URL: http://www.ti.com/lit/ml/mpdi002c/mpdi002c.pdf
footprint N0016A (DIP, 16-Leads, Body 19.7x6.6mm, Pitch 2.54mm)
pins: 1 P1 (in), 2 Q1 (out), 3 Q0 (out), 4 CPD (in), 5 CPU (in), 6 Q2 (out), 7 Q3 (out), 8 GND (power), 9 P3 (in), 10 P2 (in), 11 ~{PL} (in), 12 TCU (out), 13 TCD (out), 14 MR (in), 15 P0 (in), 16 VCC (power)